# EAGLE library part LAN9500AI-ABZJ (library SamacSys_Parts)
Ethernet ICs Hi-Speed USB 2.0 10/100 Ethernet CTRL Source: Datasheet <https://componentsearchengine.com/Datasheets/1/LAN9500AI-ABZJ.pdf>
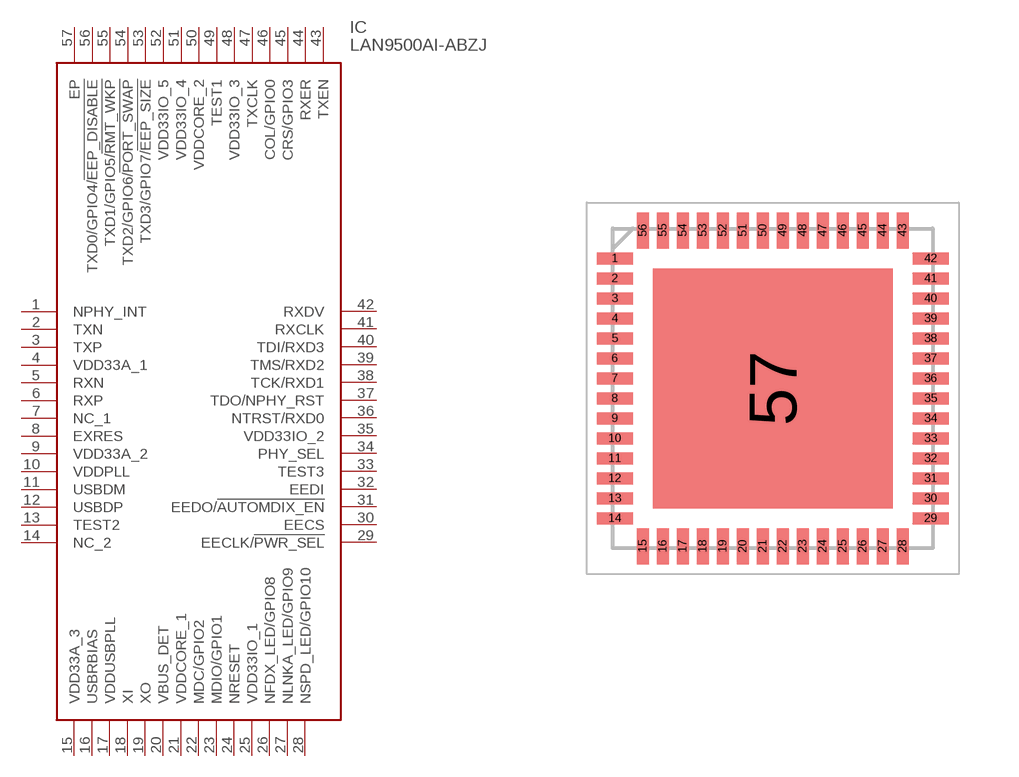
[diagram p13: symbol with the pads of QFN50P800X800X100-57N; footprint QFN50P800X800X100-57N]

Designator prefix IC

## LAN9500AI-ABZJ (DESCRIPTION: Ethernet ICs Hi-Speed USB 2.0 10/100 Ethernet CTRL; HEIGHT: 1mm; MANUFACTURER_NAME: Microchip; MANUFACTURER_PART_NUMBER: LAN9500AI-ABZJ; MOUSER_PART_NUMBER: 886-LAN9500AI-ABZJ; MOUSER_PRICE-STOCK: https://www.mouser.co.uk/ProductDetail/Microchip-Technology/LAN9500AI-ABZJ?qs=pA5MXup5wxF%2F3MeNLOF5Rg%3D%3D)  [QFN50P800X800X100-57N]
1  NPHY_INT
2  TXN
3  TXP
4  VDD33A_1
5  RXN
6  RXP
7  NC_1
8  EXRES
9  VDD33A_2
10  VDDPLL
11  USBDM
12  USBDP
13  TEST2
14  NC_2
15  VDD33A_3
16  USBRBIAS
17  VDDUSBPLL
18  XI
19  XO
20  VBUS_DET
21  VDDCORE_1
22  MDC/GPIO2
23  MDIO/GPIO1
24  NRESET
25  VDD33IO_1
26  NFDX_LED/GPIO8
27  NLNKA_LED/GPIO9
28  NSPD_LED/GPIO10
29  EECLK/!PWR_SEL
30  EECS
31  EEDO/!AUTOMDIX_EN
32  EEDI
33  TEST3
34  PHY_SEL
35  VDD33IO_2
36  NTRST/RXD0
37  TDO/NPHY_RST
38  TCK/RXD1
39  TMS/RXD2
40  TDI/RXD3
41  RXCLK
42  RXDV
43  TXEN
44  RXER
45  CRS/GPIO3
46  COL/GPIO0
47  TXCLK
48  VDD33IO_3
49  TEST1
50  VDDCORE_2
51  VDD33IO_4
52  VDD33IO_5
53  TXD3/GPIO7/!EEP_SIZE
54  TXD2/GPIO6/!PORT_SWAP
55  TXD1/GPIO5/!RMT_WKP
56  TXD0/GPIO4/!EEP_DISABLE
57  EP

## Footprint QFN50P800X800X100-57N (pad centres in mm)
LAN9
smd 0.9 x 0.3: 1 -3.95,3.25; 2 -3.95,2.75; 3 -3.95,2.25; 4 -3.95,1.75; 5 -3.95,1.25; 6 -3.95,0.75; 7 -3.95,0.25; 8 -3.95,-0.25; 9 -3.95,-0.75; 10 -3.95,-1.25; 11 -3.95,-1.75; 12 -3.95,-2.25; 13 -3.95,-2.75; 14 -3.95,-3.25; 29 3.95,-3.25; 30 3.95,-2.75; 31 3.95,-2.25; 32 3.95,-1.75; 33 3.95,-1.25; 34 3.95,-0.75; 35 3.95,-0.25; 36 3.95,0.25; 37 3.95,0.75; 38 3.95,1.25; 39 3.95,1.75; 40 3.95,2.25; 41 3.95,2.75; 42 3.95,3.25
smd 0.3 x 0.9: 15 -3.25,-3.95; 16 -2.75,-3.95; 17 -2.25,-3.95; 18 -1.75,-3.95; 19 -1.25,-3.95; 20 -0.75,-3.95; 21 -0.25,-3.95; 22 0.25,-3.95; 23 0.75,-3.95; 24 1.25,-3.95; 25 1.75,-3.95; 26 2.25,-3.95; 27 2.75,-3.95; 28 3.25,-3.95; 43 3.25,3.95; 44 2.75,3.95; 45 2.25,3.95; 46 1.75,3.95; 47 1.25,3.95; 48 0.75,3.95; 49 0.25,3.95; 50 -0.25,3.95; 51 -0.75,3.95; 52 -1.25,3.95; 53 -1.75,3.95; 54 -2.25,3.95; 55 -2.75,3.95; 56 -3.25,3.95
smd 6 x 6: 57 0,0